# Altium schematic symbol library CAP - GRM022R60J104ME15L.SchLib: 1 symbol
Pins are listed as number, name and electrical type; pins without a type are passive.

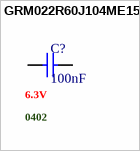
[diagram p0: symbol GRM022R60J104ME15L]

## GRM022R60J104ME15L
designator C?, comment 100nF  .Case/Package: 0402  .Voltage Rating (DC): 6.3V
CAP, 0.1UF, 6.3V, MLCC, 01005; Available until stocks are exhausted Alternatives available; Manufacturer: Murata; Manufacturer Part Number: GRM022R60J104ME15L; Manufacturer Lifecycle Status: IN PRODUCTION; Dielectric: X5R; Dielectric Material: Ceramic; Tolerance: 20%; Supplier: Mouser; Supplier Part Number: 81-GRM22R60J104ME15L; RoHS: Compliant; Category: Ceramic Capacitors; Stock: 462216; Pricing: 1=0,1, 10=0,016, 50=0,016, 100=0,013, 1000=0,008, 10000=0,006 (USD); Value: 100nF; Case/Package: 0402; Case Code (Imperial): 1005; Case Code (Metric): 1005; Height: 200µm; Lead Free: Lead Free; Lead Pitch: 5.8928mm; Length: 400µm; Lifecycle Status: Production; Material: Ceramic; Max Operating Temperature: 85°C; Min Operating Temperature: -55°C; Mounting Technology: Surface Mount; Number of Terminals: 2; REACH SVHC: Yes; Schedule B: 8532240020, 8532240020|8532240020, 8532240020|8532240020|8532240020, 8532240020|8532240020|8532240020|8532240020; Termination: SMD/SMT; Thickness: 200µm; Voltage Rating: 6.3V; Voltage Rating (DC): 6.3V; Weight: 6.010099mg; Width: 200µm; ComponentLink1URL: https://datasheet.octopart.com:443/GRM022R60J104ME15L-Murata-datasheet-165579666.pdf?src-supplier=TME; ComponentLink1Description: https://datasheet.octopart.com:443/GRM022R60J104ME15L-Murata-datasheet-165579666.pdf?src-supplier=TME; ComponentLink2URL: https://datasheet.octopart.com:443/GRM022R60J104ME15L-Murata-datasheet-141273904.pdf?src-supplier=Ciiva; ComponentLink2Description: https://datasheet.octopart.com:443/GRM022R60J104ME15L-Murata-datasheet-141273904.pdf?src-supplier=Ciiva; ComponentLink3URL: https://datasheet.octopart.com:443/GRM022R60J104ME15L-Murata-datasheet-140673554.pdf?src-supplier=Ciiva; ComponentLink3Description: https://datasheet.octopart.com:443/GRM022R60J104ME15L-Murata-datasheet-140673554.pdf?src-supplier=Ciiva; ComponentLink4URL: https://datasheet.octopart.com:443/GRM022R60J104ME15L-Murata-datasheet-138736326.pdf?src-supplier=Ciiva; ComponentLink4Description: https://datasheet.octopart.com:443/GRM022R60J104ME15L-Murata-datasheet-138736326.pdf?src-supplier=Ciiva; ComponentLink5URL: https://datasheet.octopart.com:443/GRM022R60J104ME15L-Murata-datasheet-22122223.pdf?src-supplier=Future+Electronics; ComponentLink5Description: https://datasheet.octopart.com:443/GRM022R60J104ME15L-Murata-datasheet-22122223.pdf?src-supplier=Future+Electronics; ComponentLink6URL: https://datasheet.octopart.com/GRM022R60J104ME15L-Murata-datasheet-12515295.pdf; ComponentLink6Description: https://datasheet.octopart.com/GRM022R60J104ME15L-Murata-datasheet-12515295.pdf; ComponentLink7URL: https://datasheet.octopart.com/GRM022R60J104ME15L-Murata-datasheet-12510076.pdf; ComponentLink7Description: https://datasheet.octopart.com/GRM022R60J104ME15L-Murata-datasheet-12510076.pdf; ComponentLink8URL: https://datasheet.octopart.com/GRM022R60J104ME15L-Murata-datasheet-11978611.pdf; ComponentLink8Description: https://datasheet.octopart.com/GRM022R60J104ME15L-Murata-datasheet-11978611.pdf; ComponentLink9URL: https://datasheet.octopart.com/GRM022R60J104ME15L-Murata-datasheet-10025737.pdf; ComponentLink9Description: https://datasheet.octopart.com/GRM022R60J104ME15L-Murata-datasheet-10025737.pdf; ComponentLink10URL: https://datasheet.octopart.com/GRM022R60J104ME15L-Murata-datasheet-8819587.pdf; ComponentLink10Description: https://datasheet.octopart.com/GRM022R60J104ME15L-Murata-datasheet-8819587.pdf; ComponentLink11URL: https://datasheet.octopart.com/GRM022R60J104ME15L-Murata-datasheet-14395189.pdf; ComponentLink11Description: https://datasheet.octopart.com/GRM022R60J104ME15L-Murata-datasheet-14395189.pdf; ComponentLink12URL: http://sigma.octopart.com:80/reach_statement/Murata-company-16.pdf?src-supplier=Compliance+Statements; ComponentLink12Description: http://sigma.octopart.com:80/reach_statement/Murata-company-16.pdf?src-supplier=Compliance+Statements; Supplier 1: Mouser; Supplier Part Number 1: 81-GRM22R60J104ME15L
footprint C01005-MURATA (Chip Capacitor, 2-Leads, Body 0,40x0,20mm, IPC High Density)
pins: 1, 2